# Altium integrated library Agilent LED Display Overflow.IntLib: 60 symbols (part 2 of 2)
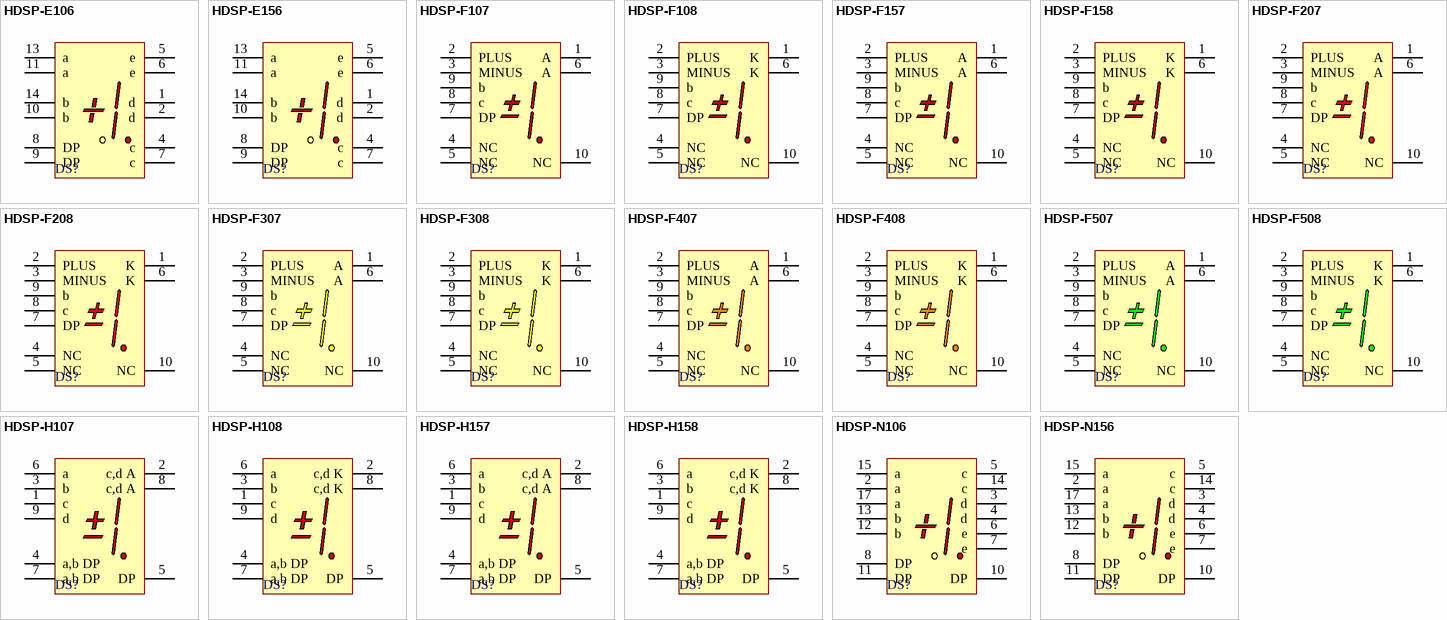
[diagram p2: symbols HDSP-E106 to HDSP-N156]

## HDSP-F408
designator DS?
10.16 mm Gray Package Orange 7-Segment Display: CC, ±1 Overflow; LuminousIntensity: 420 ucd (Minimum).; Published: 26-May-2004; LatestRevisionDate: 11-Oct-2004; LatestRevisionNote: Display outline superimposed on PCB Footprint.; DatasheetDocument: 26-Jul-2001; PackageDocument: 17-Jan-2002; PackageReference: F-10.16(O); Publisher: Altium Limited; LED_Colour: Orange; ComponentLink1Description: Manufacturer Link; ComponentLink1URL: http://www.agilent.com/; ComponentLink2Description: Datasheet; ComponentLink2URL: http://cp.literature.agilent.com/litweb/pdf/5989-2346EN.pdf
footprint F-10.16(O) (LED, Universal ±1 Overflow, 10.16 mm, RHD; 10 Leads; Row Space 7.62 mm; Pitch 2.54 mm)
simulation model HDSP_F408 (SUBCKT)
pins: 1 K "Cathode", 2 PLUS "Anode", 3 MINUS "Anode", 4 NC "No Connect", 5 NC "No Connect", 6 K "Cathode", 7 DP "Anode", 8 c "Anode", 9 b "Anode", 10 NC "No Connect"

## HDSP-F507
designator DS?
10.16 mm Gray Package Green 7-Segment Display: CA, ±1 Overflow; LuminousIntensity: 1030 ucd (Minimum).; Published: 26-May-2004; LatestRevisionDate: 11-Oct-2004; LatestRevisionNote: Display outline superimposed on PCB Footprint.; DatasheetDocument: 26-Jul-2001; PackageDocument: 17-Jan-2002; PackageReference: F-10.16(O); Publisher: Altium Limited; LED_Colour: Green; ComponentLink1Description: Manufacturer Link; ComponentLink1URL: http://www.agilent.com/; ComponentLink2Description: Datasheet; ComponentLink2URL: http://cp.literature.agilent.com/litweb/pdf/5989-2346EN.pdf
footprint F-10.16(O) (LED, Universal ±1 Overflow, 10.16 mm, RHD; 10 Leads; Row Space 7.62 mm; Pitch 2.54 mm)
simulation model HDSP_F507 (SUBCKT)
pins: 1 A "Anode", 2 PLUS "Cathode", 3 MINUS "Cathode", 4 NC "No Connect", 5 NC "No Connect", 6 A "Anode", 7 DP "Cathode", 8 c "Cathode", 9 b "Cathode", 10 NC "No Connect"

## HDSP-F508
designator DS?
10.16 mm Gray Package Green 7-Segment Display: CC, ±1 Overflow; LuminousIntensity: 1030 ucd (Minimum).; Published: 26-May-2004; LatestRevisionDate: 11-Oct-2004; LatestRevisionNote: Display outline superimposed on PCB Footprint.; DatasheetDocument: 26-Jul-2001; PackageDocument: 17-Jan-2002; PackageReference: F-10.16(O); Publisher: Altium Limited; LED_Colour: Green; ComponentLink1Description: Manufacturer Link; ComponentLink1URL: http://www.agilent.com/; ComponentLink2Description: Datasheet; ComponentLink2URL: http://cp.literature.agilent.com/litweb/pdf/5989-2346EN.pdf
footprint F-10.16(O) (LED, Universal ±1 Overflow, 10.16 mm, RHD; 10 Leads; Row Space 7.62 mm; Pitch 2.54 mm)
simulation model HDSP_F508 (SUBCKT)
pins: 1 K "Cathode", 2 PLUS "Anode", 3 MINUS "Anode", 4 NC "No Connect", 5 NC "No Connect", 6 K "Cathode", 7 DP "Anode", 8 c "Anode", 9 b "Anode", 10 NC "No Connect"

## HDSP-H107
designator DS?
14.22 mm Low Current AlGaAs 7-Segment Display: CA, ±1 Overflow; LuminousIntensity: 400 ucd (Minimum).; LED_Colour: AlGaAs Red; Note: No pin is present in position 10.; Published: 26-May-2004; LatestRevisionDate: 11-Oct-2004; LatestRevisionNote: Display outline superimposed on PCB Footprint.; DatasheetDocument: 11-Mar-2003; PackageDocument: 24-Sep-2002; PackageReference: H-9; Publisher: Altium Limited; ComponentLink1Description: Manufacturer Link; ComponentLink1URL: http://www.agilent.com/; ComponentLink2Description: Datasheet; ComponentLink2URL: http://cp.literature.agilent.com/litweb/pdf/5989-2824EN.pdf
footprint H-9 (LED, Universal ±1 Overflow, 14.22 mm, RHD; 10 Leads (1 Absent); Row Space 15.24 mm; Pitch 2.54 mm)
simulation model HDSP_H107 (SUBCKT)
pins: 1 c "Cathode", 2 c,d A "Anode", 3 b "Cathode", 4 a,b DP "Anode", 5 DP "Cathode", 6 a "Cathode", 7 a,b DP "Anode", 8 c,d A "Anode", 9 d "Cathode"

## HDSP-H108
designator DS?
14.22 mm Low Current AlGaAs 7-Segment Display: CC, ±1 Overflow; LuminousIntensity: 400 ucd (Minimum).; LED_Colour: AlGaAs Red; Note: No pin is present in position 10.; Published: 26-May-2004; LatestRevisionDate: 11-Oct-2004; LatestRevisionNote: Display outline superimposed on PCB Footprint.; DatasheetDocument: 11-Mar-2003; PackageDocument: 24-Sep-2002; PackageReference: H-9; Publisher: Altium Limited; ComponentLink1Description: Manufacturer Link; ComponentLink1URL: http://www.agilent.com/; ComponentLink2Description: Datasheet; ComponentLink2URL: http://cp.literature.agilent.com/litweb/pdf/5989-2824EN.pdf
footprint H-9 (LED, Universal ±1 Overflow, 14.22 mm, RHD; 10 Leads (1 Absent); Row Space 15.24 mm; Pitch 2.54 mm)
simulation model HDSP_H108 (SUBCKT)
pins: 1 c "Anode", 2 c,d K "Cathode", 3 b "Anode", 4 a,b DP "Cathode", 5 DP "Anode", 6 a "Anode", 7 a,b DP "Cathode", 8 c,d K "Cathode", 9 d "Anode"

## HDSP-H157
designator DS?
14.22 mm Gray Surface AlGaAs Red 7-Segment Display: CA, ±1 Overflow; LuminousIntensity: 9100 ucd (Minimum).; Note: No pin is present in position 10.; Published: 26-May-2004; LatestRevisionDate: 11-Oct-2004; LatestRevisionNote: Display outline superimposed on PCB Footprint.; DatasheetDocument: 17-Jan-2002; PackageDocument: 24-Sep-2002; PackageReference: H-9; Publisher: Altium Limited; LED_Colour: AlGaAs Red; ComponentLink1Description: Manufacturer Link; ComponentLink1URL: http://www.agilent.com/; ComponentLink2Description: Datasheet; ComponentLink2URL: http://cp.literature.agilent.com/litweb/pdf/5988-4273EN.pdf
footprint H-9 (LED, Universal ±1 Overflow, 14.22 mm, RHD; 10 Leads (1 Absent); Row Space 15.24 mm; Pitch 2.54 mm)
simulation model HDSP_H157 (SUBCKT)
pins: 1 c "Cathode", 2 c,d A "Anode", 3 b "Cathode", 4 a,b DP "Anode", 5 DP "Cathode", 6 a "Cathode", 7 a,b DP "Anode", 8 c,d A "Anode", 9 d "Cathode"

## HDSP-H158
designator DS?
14.22 mm Gray Surface AlGaAs Red 7-Segment Display: CC, ±1 Overflow; LuminousIntensity: 9100 ucd (Minimum).; Note: No pin is present in position 10.; Published: 26-May-2004; LatestRevisionDate: 11-Oct-2004; LatestRevisionNote: Display outline superimposed on PCB Footprint.; DatasheetDocument: 17-Jan-2002; PackageDocument: 24-Sep-2002; PackageReference: H-9; Publisher: Altium Limited; LED_Colour: AlGaAs Red; ComponentLink1Description: Manufacturer Link; ComponentLink1URL: http://www.agilent.com/; ComponentLink2Description: Datasheet; ComponentLink2URL: http://cp.literature.agilent.com/litweb/pdf/5988-4273EN.pdf
footprint H-9 (LED, Universal ±1 Overflow, 14.22 mm, RHD; 10 Leads (1 Absent); Row Space 15.24 mm; Pitch 2.54 mm)
simulation model HDSP_H158 (SUBCKT)
pins: 1 c "Anode", 2 c,d K "Cathode", 3 b "Anode", 4 a,b DP "Cathode", 5 DP "Anode", 6 a "Anode", 7 a,b DP "Cathode", 8 c,d K "Cathode", 9 d "Anode"

## HDSP-N106
designator DS?
20.32 mm Low Current AlGaAs 7-Segment Display: Universal ±1 Overflow; LuminousIntensity: 270 ucd (Minimum).; LED_Colour: AlGaAs Red; Note: No pins are present in positions 1, 9, 16 and 18.; Published: 26-May-2004; LatestRevisionDate: 11-Oct-2004; LatestRevisionNote: Display outline superimposed on PCB Footprint.; DatasheetDocument: 11-Mar-2003; PackageDocument: 26-Jul-2001; PackageReference: N-14; Publisher: Altium Limited; ComponentLink1Description: Manufacturer Link; ComponentLink1URL: http://www.agilent.com/; ComponentLink2Description: Datasheet; ComponentLink2URL: http://cp.literature.agilent.com/litweb/pdf/5989-2824EN.pdf
footprint N-14 (LED, 7-Segment Display, 20.32 mm, RHD; 18 Leads (4 Absent); Row Space 15.24 mm; Pitch 2.54 mm)
simulation model HDSP_N106 (SUBCKT)
pins: 2 a "Cathode", 3 d "Anode", 4 d "Cathode", 5 c "Cathode", 6 e "Cathode", 7 e "Anode", 8 DP "Cathode", 10 DP "Anode", 11 DP "Cathode", 12 b "Cathode", 13 b "Anode", 14 c "Anode", 15 a "Anode", 17 a "Cathode"

## HDSP-N156
designator DS?
20.32 mm Gray Package AlGaAs 7-Segment Display: Universal ±1 Overflow; LuminousIntensity: 6000 ucd (Minimum).; LED_Colour: AlGaAs Red; Note: No pins are present in positions 1, 9, 16 and 18.; Published: 26-May-2004; LatestRevisionDate: 11-Oct-2004; LatestRevisionNote: Display outline superimposed on PCB Footprint.; DatasheetDocument: 26-Jul-2001; PackageDocument: 26-Jul-2001; PackageReference: N-14; Publisher: Altium Limited; ComponentLink1Description: Manufacturer Link; ComponentLink1URL: http://www.agilent.com/; ComponentLink2Description: Datasheet; ComponentLink2URL: http://cp.literature.agilent.com/litweb/pdf/5988-1737EN.pdf
footprint N-14 (LED, 7-Segment Display, 20.32 mm, RHD; 18 Leads (4 Absent); Row Space 15.24 mm; Pitch 2.54 mm)
simulation model HDSP_N156 (SUBCKT)
pins: 2 a "Cathode", 3 d "Anode", 4 d "Cathode", 5 c "Cathode", 6 e "Cathode", 7 e "Anode", 8 DP "Cathode", 10 DP "Anode", 11 DP "Cathode", 12 b "Cathode", 13 b "Anode", 14 c "Anode", 15 a "Anode", 17 a "Cathode"